# EAGLE library part ADS1115IDGSR (library ruark2)
16 Bit Analog to Digital Converter 2 Input 1 Sigma-Delta 10-VSSOP
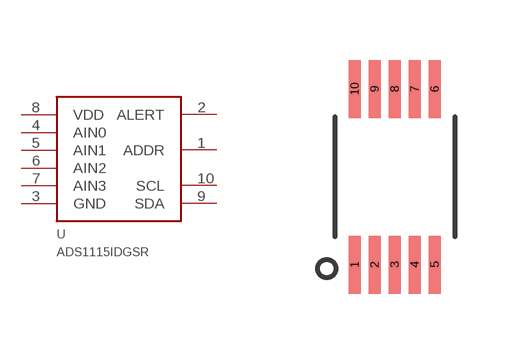
[diagram p197: symbol with the pads of VSSOP10; footprint VSSOP10]

Designator prefix U

## ADS1115IDGSR (PARTNO: 296-38849-1-ND)  [VSSOP10]
1  ADDR
2  ALERT
3  GND
4  AIN0
5  AIN1
6  AIN2
7  AIN3
8  VDD
9  SDA
10  SCL

## Footprint VSSOP10 (pad centres in mm)
smd 0.3 x 1.45: 1 -1,-2.2; 2 -0.5,-2.2; 3 0,-2.2; 4 0.5,-2.2; 5 1,-2.2; 6 1,2.2; 7 0.5,2.2; 8 0,2.2; 9 -0.5,2.2; 10 -1,2.2